# Altium schematic symbol library IC_POT.SchLib: 2 symbols
Pins are listed as number, name and electrical type; pins without a type are passive.

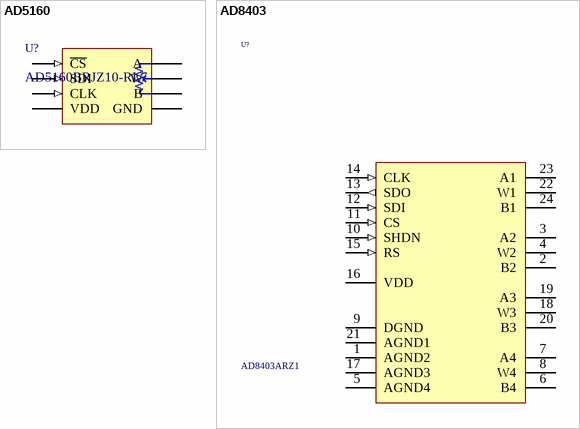
[diagram p0: symbols AD5160 to AD8403]

## AD5160
designator U?, comment AD5160BRJZ10-RL7
256-Position SPI Compatible Digital Potentiometer; Supplier: https://www.electronshik.ru/item/AD/AD5160BRJZ10-RL7; HelpURL: https://www.analog.com/media/en/technical-documentation/data-sheets/AD5160.pdf; Name: AD5160BRJZ10-RL7; BOMString: AD5160BRJZ10-RL7
footprint SOT-23-8
pins: 1 W, 2 VDD, 3 GND, 4 CLK (in), 5 SDI (in), 6 ~{CS} (in), 7 B, 8 A

## AD8403
designator U?, comment AD8403ARZ1
4 Channel Digital Potentiometers; Name: AD8403ARZ1
footprint TSSOP-24-0.65 (TSOP, 24-Leads, Body 7,80x4,40mm, Pitch 0,65mm, IPC Medium Density)
pins: 1 AGND2, 2 B2, 3 A2, 4 W2, 5 AGND4, 6 B4, 7 A4, 8 W4, 9 DGND, 10 SHDN (in), 11 CS (in), 12 SDI (in), 13 SDO (out), 14 CLK (in), 15 RS (in), 16 VDD (power), 17 AGND3, 18 W3, 19 A3, 20 B3, 21 AGND1, 22 W1, 23 A1, 24 B1